# Altium schematic symbol library PickPlacePad.SchLib: 2 symbols
Pins are listed as number, name and electrical type; pins without a type are passive.

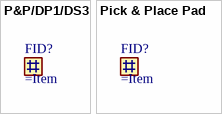
[diagram p0: symbols P&P/DP1/DS3 to Pick & Place Pad]

## P&P/DP1/DS3
designator FID?  (no BOM)

## Pick & Place Pad
designator FID?  (no BOM)